# EAGLE library part LPC1114FN28/102 (library lpc_11xx)
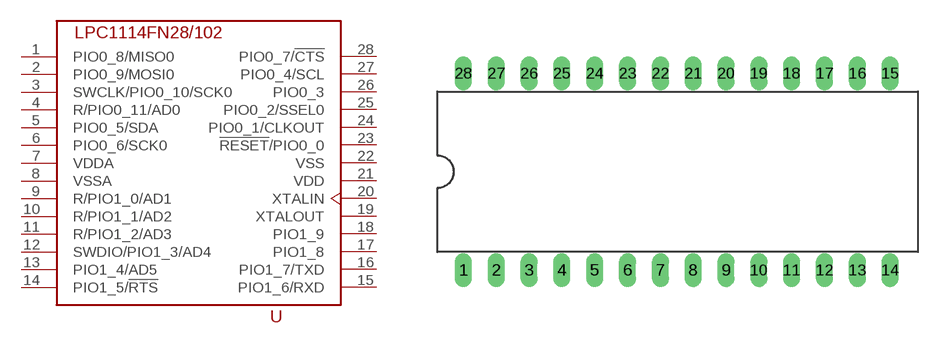
[diagram p0: symbol with the pads of DIL28-6; footprint DIL28-6]

Designator prefix -

## LPC1114FN28/102  [DIL28-6]
1  PIO0_8/MISO0
2  PIO0_9/MOSI0
3  SWCLK/PIO0_10/SCK0
4  R/PIO0_11/AD0
5  PIO0_5/SDA
6  PIO0_6/SCK0
7  VDDA  pwr
8  VSSA  pwr
9  R/PIO1_0/AD1
10  R/PIO1_1/AD2
11  R/PIO1_2/AD3
12  SWDIO/PIO1_3/AD4
13  PIO1_4/AD5
14  PIO1_5/!RTS
15  PIO1_6/RXD
16  PIO1_7/TXD
17  PIO1_8
18  PIO1_9
19  XTALOUT  out
20  XTALIN
21  VDD  pwr
22  VSS  pwr
23  !RESET!/PIO0_0
24  PIO0_1/CLKOUT
25  PIO0_2/SSEL0
26  PIO0_3
27  PIO0_4/SCL
28  PIO0_7/!CTS

## Footprint DIL28-6 (pad centres in mm)
Dual In Line package type P
drill 0.813 long: 1 -16.51,-7.62; 2 -13.97,-7.62; 3 -11.43,-7.62; 4 -8.89,-7.62; 5 -6.35,-7.62; 6 -3.81,-7.62; 7 -1.27,-7.62; 8 1.27,-7.62; 9 3.81,-7.62; 10 6.35,-7.62; 11 8.89,-7.62; 12 11.43,-7.62; 13 13.97,-7.62; 14 16.51,-7.62; 15 16.51,7.62; 16 13.97,7.62; 17 11.43,7.62; 18 8.89,7.62; 19 6.35,7.62; 20 3.81,7.62; 21 1.27,7.62; 22 -1.27,7.62; 23 -3.81,7.62; 24 -6.35,7.62; 25 -8.89,7.62; 26 -11.43,7.62; 27 -13.97,7.62; 28 -16.51,7.62